# Altium schematic symbol library HDS10M-13.SchLib: 2 symbols
Pins are listed as number, name and electrical type; pins without a type are passive.

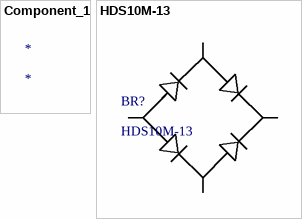
[diagram p0: symbols Component_1 to HDS10M-13]

## Component_1
designator *

## HDS10M-13
designator BR?
No Description Available; Mfr_Name: Diodes Inc; Copyright: Copyright (C) 2021 Ultra Librarian. All rights reserved.; Manufacturer_Part_Number: HDS10M-13; RefDes: RefDes; Type: DEV
footprint HDS_DIO
pins: 1, 2, 3, 4